# Altium schematic symbol library R.Schlib: 1 symbol
Pins are listed as number, name and electrical type; pins without a type are passive.

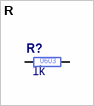
[diagram p0: symbol R]

## R
designator R?esistance: 1k  Case/Package: 0603  (hidden comment: R)
Value: 1k
simulation model R_Resistor_Default (Model Description)
pins: 1, 2
1 alternate drawing of the same symbol